# Altium schematic symbol library ESDA25B1.SchLib: 1 symbol
Pins are listed as number, name and electrical type; pins without a type are passive.

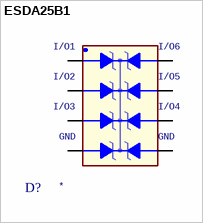
[diagram p0: symbol ESDA25B1]

## ESDA25B1
designator D?
Value: *
pins: 1 I/O1, 2 I/O2, 3 I/O3, 4 GND, 5 GND1, 6 I/O4, 7 I/O5, 8 I/O6